# Altium footprint library SC70-6 SOT363.PcbLib: 1 footprints
Each footprint in its own frame and in the unit in brackets; x right, y up, seen from the top. Pads: shape width x height; smd on the part's side, far side on the other; paste and mask are expansions set on the pad; w line width, h text height; cw(c..) or ccw(c..) is an arc to the next point about the centre after c.
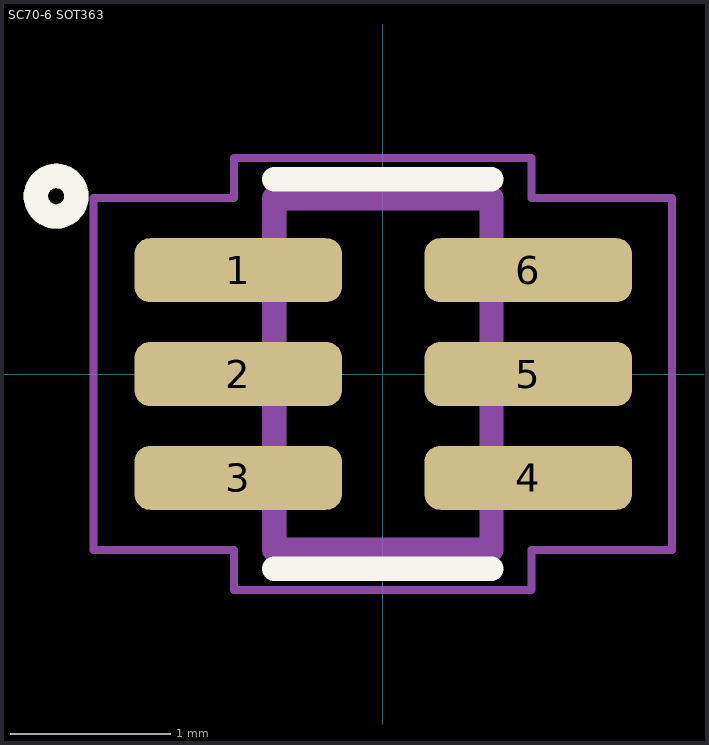
[diagram p0: the footprint, top view; thin cyan lines are the x and y axes]

## SC70-6 SOT363 [mm]
pads (6):
  rrect50% 1.3x0.4 smd: 1(-0.905,0.65) 2(-0.905,0) 3(-0.905,-0.65) 4(0.91,-0.65) 5(0.91,0) 6(0.91,0.65)
Top Overlay:
  lines w0.152: -0.68,-1.219 0.68,-1.219 ; -0.68,1.219 0.68,1.219 ; -2.044,0.985 cw(c-2.044,1.112) -2.044,1.239 cw(c-2.044,1.112) -2.044,0.985
Mechanical 13:
  lines w0.152: -2.044,0.985 cw(c-2.044,1.112) -2.044,1.239 cw(c-2.044,1.112) -2.044,0.985 ; -0.68,-1.1 -0.68,1.1 0.68,1.1 0.68,-1.1 -0.68,-1.1
Mechanical 15:
  lines w0.05: -1.81,-1.1 -0.93,-1.1 -0.93,-1.35 0.93,-1.35 0.93,-1.1 1.81,-1.1 1.81,1.1 0.93,1.1 0.93,1.35 -0.93,1.35 -0.93,1.1 -1.81,1.1 -1.81,-1.1
3D body "User Library-sot363.STEP": height 1, standoff 0, extent -1.15,-1.05 1.15,1.05